# Altium footprint library Boards.PcbLib: 3 footprints
Each footprint in its own frame and in the unit in brackets; x right, y up, seen from the top. Pads: shape width x height; smd on the part's side, far side on the other; paste and mask are expansions set on the pad; w line width, h text height; cw(c..) or ccw(c..) is an arc to the next point about the centre after c.
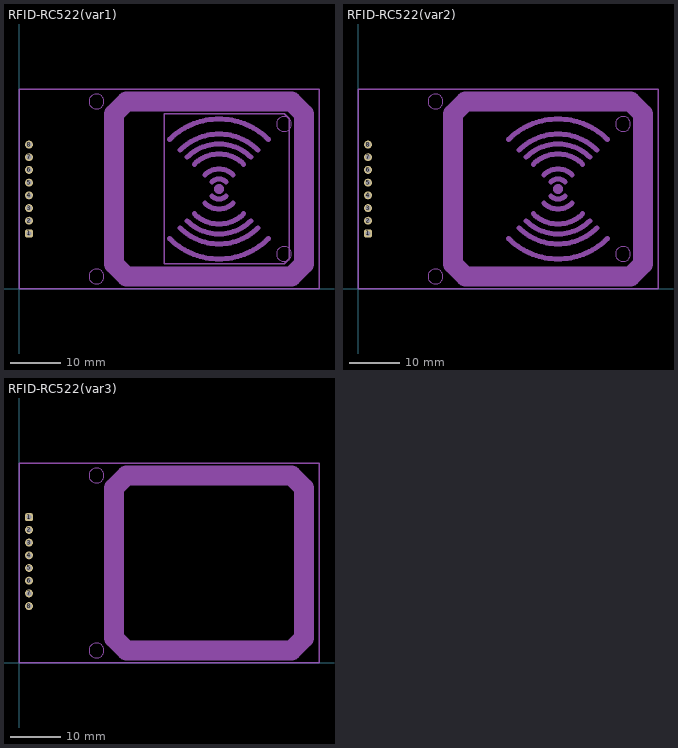
[diagram p0: the footprints below, top view; thin cyan lines are the x and y axes]

## RFID-RC522(var1) [mm]
pads (8):
  rrect50% 1.6x1.6 hole 1: 1(2,11.11)
  round 1.6 hole 1: 2(2,13.65) 3(2,16.19) 4(2,18.73) 5(2,21.27) 6(2,23.81) 7(2,26.35) 8(2,28.89)
Mechanical 1:
  circle w1: c40,20 r0.5
  circle w0.1: c15.5,2.5 r1.5
  circle w0.1: c15.5,37.5 r1.5
  circle w0.1: c53,7 r1.5
  circle w0.1: c53,33 r1.5
  lines w0.254: 0,0 60,0 60,40 0,40 0,0 ; 29,5 53,5 54,6 54,34 53,35 29,35 29,5
  lines w1: 30.101,10.101 ccw(c40,20) 49.899,10.101 ; 30.101,29.899 cw(c40,20) 49.899,29.899 ; 32.222,12.222 ccw(c40,20) 47.778,12.222 ; 32.222,27.778 cw(c40,20) 47.778,27.778 ; 33.636,13.636 ccw(c40,20) 46.364,13.636 ; 33.636,26.364 cw(c40,20) 46.364,26.364 ; 35.05,15.05 ccw(c40,20) 44.95,15.05 ; 35.05,24.95 cw(c40,20) 44.95,24.95 ; 37.172,17.172 ccw(c40,20) 42.828,17.172 ; 37.172,22.828 cw(c40,20) 42.828,22.828 ; 38.586,18.586 ccw(c40,20) 41.414,18.586 ; 38.586,21.414 cw(c40,20) 41.414,21.414
  lines w4: 19,5 21.5,2.5 54.5,2.5 57,5 57,35 54.5,37.5 21.5,37.5 19,35 19,5
3D body: height 1.5, standoff 1, extent 3,6 7,8
3D body: height 1.5, standoff 1, extent 8,6 12,8
3D body: height 1.5, standoff 1, extent 15,26 17,30
3D body: height 1.5, standoff 1, extent 12,26 14,30
3D body: height 1.5, standoff 1, extent 9,26 11,30
3D body: height 1.5, standoff 1, extent 6,26 8,30
3D body: height 1.5, standoff 1, extent 15,11 17,15
3D body: height 1.5, standoff 1, extent 12,11 14,15
3D body: height 1.5, standoff 1, extent 9,11 11,15
3D body: height 1.5, standoff 1, extent 6,11 8,15
3D body: height 2.5, standoff 1.5, extent 0,0 60,40
3D body: height 1.5, standoff 1, extent 23,11 27,13
3D body: height 1.5, standoff 1, extent 23,14 27,16
3D body: height 1.5, standoff 1, extent 23,17 27,19
3D body: height 1.5, standoff 1, extent 23,21 27,23
3D body: height 1.5, standoff 1, extent 23,24 27,26
3D body: height 1.5, standoff 1, extent 23,27 27,29
3D body: height 1.5, standoff 1, extent 8,18 13,23
3D body: height 1.5, standoff 1, extent 3,33 5,37
3D body: height 1.5, standoff 1, extent 6,33 8,37
3D body: height 1.5, standoff 1, extent 9,33 11,37
3D body: height 1.5, standoff 1, extent 12,33 14,37
3D body: height 1.5, standoff -1.5, extent 3,1 12,5

## RFID-RC522(var2) [mm]
pads (8):
  rrect50% 1.6x1.6 hole 1: 1(2,11.11)
  round 1.6 hole 1: 2(2,13.65) 3(2,16.19) 4(2,18.73) 5(2,21.27) 6(2,23.81) 7(2,26.35) 8(2,28.89)
Mechanical 1:
  circle w0.1: c53,33 r1.5
  circle w0.1: c53,7 r1.5
  circle w0.1: c15.5,37.5 r1.5
  circle w0.1: c15.5,2.5 r1.5
  circle w1: c40,20 r0.5
  lines w0.254: 0,0 0,40 60,40 60,0 0,0
  lines w1: 30.101,10.101 ccw(c40,20) 49.899,10.101 ; 30.101,29.899 cw(c40,20) 49.899,29.899 ; 32.222,12.222 ccw(c40,20) 47.778,12.222 ; 32.222,27.778 cw(c40,20) 47.778,27.778 ; 33.636,13.636 ccw(c40,20) 46.364,13.636 ; 33.636,26.364 cw(c40,20) 46.364,26.364 ; 35.05,15.05 ccw(c40,20) 44.95,15.05 ; 35.05,24.95 cw(c40,20) 44.95,24.95 ; 37.172,17.172 ccw(c40,20) 42.828,17.172 ; 37.172,22.828 cw(c40,20) 42.828,22.828 ; 38.586,18.586 ccw(c40,20) 41.414,18.586 ; 38.586,21.414 cw(c40,20) 41.414,21.414
  lines w4: 19,5 19,35 21.5,37.5 54.5,37.5 57,35 57,5 54.5,2.5 21.5,2.5 19,5
3D body: height -1.5, standoff -2.5, extent 39.504,19.501 40.5,20.499
3D body: height 1.5, standoff -1.5, extent 3,33 12,37
3D body: height -1, standoff -1.5, extent 12,3 14,7
3D body: height -1, standoff -1.5, extent 9,3 11,7
3D body: height -1, standoff -1.5, extent 6,3 8,7
3D body: height -1, standoff -1.5, extent 3,3 5,7
3D body: height -1, standoff -1.5, extent 8,17 13,22
3D body: height -1, standoff -1.5, extent 23,27 27,29
3D body: height -1, standoff -1.5, extent 23,24 27,26
3D body: height -1, standoff -1.5, extent 23,21 27,23
3D body: height -1, standoff -1.5, extent 23,17 27,19
3D body: height -1, standoff -1.5, extent 23,14 27,16
3D body: height -1, standoff -1.5, extent 23,11 27,13
3D body: height -1.5, standoff -2.5, extent 0,0 60,40
3D body: height -1, standoff -1.5, extent 15,25 17,29
3D body: height -1, standoff -1.5, extent 12,25 14,29
3D body: height -1, standoff -1.5, extent 9,25 11,29
3D body: height -1, standoff -1.5, extent 6,25 8,29
3D body: height -1, standoff -1.5, extent 15,10 17,14
3D body: height -1, standoff -1.5, extent 12,10 14,14
3D body: height -1, standoff -1.5, extent 9,10 11,14
3D body: height -1, standoff -1.5, extent 6,10 8,14
3D body: height -1, standoff -1.5, extent 3,30 7,32
3D body: height -1, standoff -1.5, extent 8,30 12,32

## RFID-RC522(var3) [mm]
pads (8):
  rrect50% 1.6x1.6 hole 1: 1(2,29.16)
  round 1.6 hole 1: 2(2,26.62) 3(2,24.08) 4(2,21.54) 5(2,19) 6(2,16.46) 7(2,13.92) 8(2,11.38)
Mechanical 1:
  circle w0.1: c15.5,37.5 r1.5
  circle w0.1: c15.5,2.5 r1.5
  lines w0.254: 0,0 0,40 60,40 60,0 0,0
  lines w4: 19,5 19,35 21.5,37.5 54.5,37.5 57,35 57,5 54.5,2.5 21.5,2.5 19,5
3D body: height 1, standoff 0, extent 0,0 60,40
3D body: height 1.5, standoff 1, extent 5.5,34 9.5,36
3D body: height 1.5, standoff 1, extent 12,3 14,7
3D body: height 1.5, standoff 1, extent 9,3 11,7
3D body: height 1.5, standoff 1, extent 6,3 8,7
3D body: height 1.5, standoff 1, extent 3,3 5,7
3D body: height 1.5, standoff 1, extent 8,17 13,22
3D body: height 1.5, standoff 1, extent 23,27 27,29
3D body: height 1.5, standoff 1, extent 23,24 27,26
3D body: height 1.5, standoff 1, extent 23,21 27,23
3D body: height 1.5, standoff 1, extent 23,17 27,19
3D body: height 1.5, standoff 1, extent 23,14 27,16
3D body: height 1.5, standoff 1, extent 23,11 27,13
3D body: height 1.5, standoff 1, extent 15,25 17,29
3D body: height 1.5, standoff 1, extent 12,25 14,29
3D body: height 1.5, standoff 1, extent 9,25 11,29
3D body: height 1.5, standoff 1, extent 6,25 8,29
3D body: height 1.5, standoff 1, extent 15,10 17,14
3D body: height 1.5, standoff 1, extent 12,10 14,14
3D body: height 1.5, standoff 1, extent 9,10 11,14
3D body: height 1.5, standoff 1, extent 6,10 8,14
3D body: height 1.5, standoff 1, extent 3,30 7,32
3D body: height 1.5, standoff 1, extent 8,30 12,32